# Altium footprint library Front_PCB.PcbLib: 12 footprints
Each footprint in its own frame and in the unit in brackets; x right, y up, seen from the top. Pads: shape width x height; smd on the part's side, far side on the other; paste and mask are expansions set on the pad; w line width, h text height; cw(c..) or ccw(c..) is an arc to the next point about the centre after c.
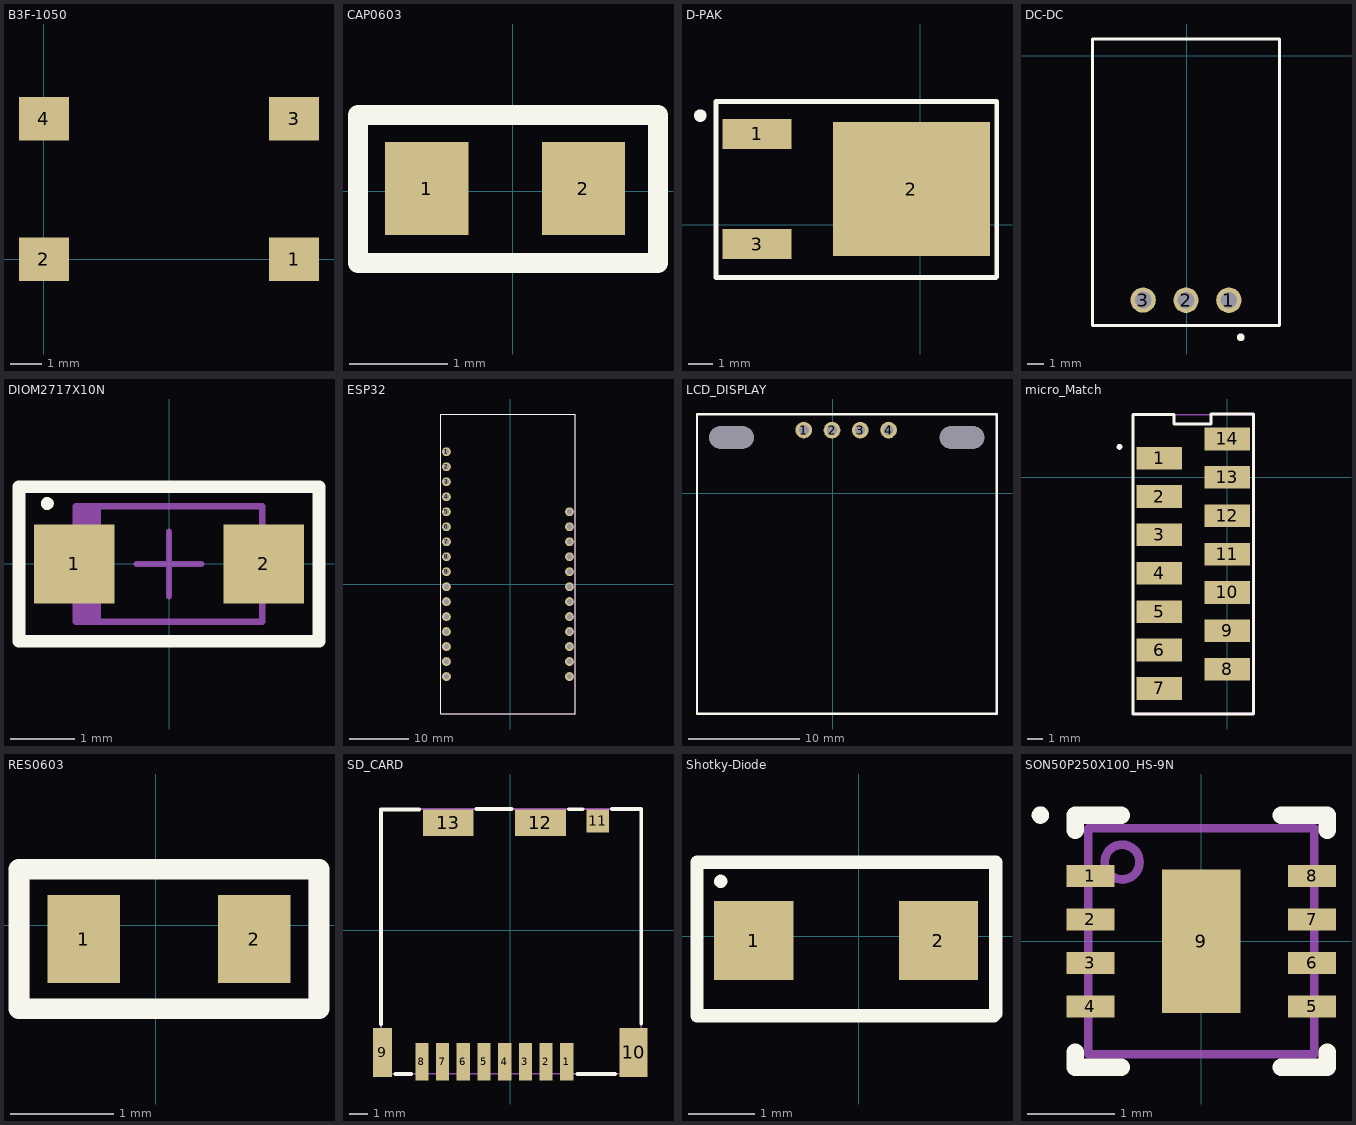
[diagram p0: the footprints below, top view; thin cyan lines are the x and y axes]

## B3F-1050 [mm]
pads (4):
  rect 1.6x1.4 smd: 1(8,0) 2(0,0) 3(8,4.5) 4(0,4.5)
3D body "33421.STEP": height 10.5, standoff 5, extent 1.1,-0.76 7.1,5.24
3D body "User Library-omron_b3fs1050.STEP": height 7.3, standoff 0, extent 0.02,-0.9 8.02,5.4

## CAP0603 [mm]
pads (2):
  rect 0.85x0.95 smd: 1(-0.88,0.03) 2(0.72,0.03)
Top Overlay:
  lines w0.2: -1.58,-0.73 1.48,-0.73 1.48,0.78 -1.58,0.78 -1.58,-0.73
Mechanical 29:
  lines w0.1: -1.54,-0.71 -1.54,0.75 1.47,0.75 1.47,-0.71 -1.54,-0.71
  text "'.Designator'" at -1.12,-0.11 h0.52
3D body: height 0.6, standoff 0, extent -0.53,-0.37 0.37,0.43
3D body: height 0.6, standoff 0, extent 0.37,-0.37 0.72,0.43
3D body: height 0.6, standoff 0, extent -0.88,-0.37 -0.53,0.43

## D-PAK [mm]
pads (3):
  rect 2.85x1.25 smd: 1(-6.77,3.77) 3(-6.77,-0.79)
  rect 6.5x5.55 smd: 2(-0.38,1.48)
Top Overlay:
  circle w0.25: c-9.12,4.53 r0.136
  lines w0.2: -8.47,-2.17 -8.47,5.12 3.16,5.12 3.16,-2.15 3.14,-2.17 -8.47,-2.17
Mechanical 29:
  lines w0.1: -8.43,-2.17 -8.43,5.13 3.17,5.13 3.17,-2.17 -8.43,-2.17
  text "'.Designator'" at -8.29,1.23 h1
3D body: height 2.4, standoff 0.6, extent -4.78,-1.92 1.52,4.88

## DC-DC [mm]
pads (3):
  round 1.501 hole 1: 1(2.49,-14.5) 2(-0.05,-14.5)
  round 1.5 hole 1: 3(-2.59,-14.49)
Top Overlay:
  circle w0.254: c3.2,-16.7 r0.1
  lines w0.2: -5.6,-16 5.5,-16 5.5,1 -5.6,1 -5.6,-16
Mechanical 29:
  lines w0.1: -5.6,-16 -5.6,1 5.5,1 5.5,-3.5 5.5,-10.4 5.5,-16 3.7,-16 -1.975,-16 -5.6,-16
  text "'.Designator'" at -4.3,-3.3 h0.7
3D body: height 7.6, standoff 0, extent -5.6,-15.98 5.49,0.96

## DIOM2717X10N [mm] "Molded Diode, 2-Leads, Body 2.70x1.65mm, IPC Medium Density"
height 1
pads (2):
  rect 1.25x1.22 smd: 1(-1.475,0) 2(1.475,0)
Top Overlay:
  circle w0.1: c-1.89,0.94 r0.05
  lines w0.2: -2.33,-1.2 -2.33,1.2 2.33,1.2 2.33,-1.2 -2.33,-1.2
Mechanical 15:
  lines w0.1: -0.5,0 0.5,0 ; 0,-0.5 0,0.5
Mechanical 29:
  rectangle: -1.45,-0.9 -1.06,0.9
  lines w0.1: -1.45,-0.9 -1.45,0.9 1.45,0.9 1.45,-0.9 -1.45,-0.9
  text "'.Designator'" at -1.8,-0.34 h2
3D body "DIOM2717X10N.step": height 1, standoff 0, extent -1.67,-0.9 1.67,0.9

## ESP32 [mm]
pads (28):
  round 1.5 hole 0.9: 1(-10.81,22.44) 2(-10.81,19.9) 3(-10.81,17.36) 4(-10.81,14.82) 5(-10.81,12.28) 6(-10.81,9.74) 7(-10.8,7.2) 8(-10.81,4.66) 9(-10.81,2.12) 10(-10.81,-0.42) 11(-10.81,-2.96) 12(-10.81,-5.5) 13(-10.81,-8.04) 14(-10.81,-10.58) 15(-10.81,-13.12) 16(-10.81,-15.66) 17(10.05,-15.66) 18(10.05,-13.12) 19(10.05,-10.58) 20(10.05,-8.04) 21(10.05,-5.5) 22(10.05,-2.96) 23(10.05,-0.42) 24(10.05,2.12) 25(10.05,4.66) 26(10.05,7.2) 27(10.05,9.74) 28(10.05,12.28)
Top Overlay:
  lines w0.2: -11.81,-22.01 -11.81,28.83 11.04,28.83 11.04,-22.01 -11.81,-22.01
Mechanical 29:
  lines w0.1: -11.81,-22.01 -11.81,28.85 11.07,28.85 11.07,-22.01 3.93,-22.01 -11.81,-22.01
  text "'.Designator'" at -2.3,3.6 h1.52

## LCD_DISPLAY [mm]
pads (6):
  round 1.5 hole 0.9: 1(-2.63,5.69)
  round 1.501 hole 0.9: 2(-0.09,5.68) 3(2.45,5.68) 4(5,5.69)
  oval 4x2 hole 2.032 slot 3.988 at 0 deg unplated: ""(-9.14,5.02) ""(11.61,5.02)
Top Overlay:
  lines w0.2: -12.23,-19.84 14.73,-19.84 14.73,7.12 -12.23,7.12 -12.23,-19.84
Mechanical 29:
  lines w0.1: 14.685,7.12 10.96,7.12 9.985,7.12 -12.24,7.12 -12.24,-19.855 14.76,-19.855 14.71,7.095
  text "'.Designator'" at -3.87,-7.05 h1.52
3D body "User Library-128x64I2COLEDDisplayAdafruit.step": height 4.77, standoff -6.07, extent -12.15,-19.79 14.55,8.07

## micro_Match [mm]
pads (14):
  rect 3x1.5 smd: 1(-4.5,1.27) 2(-4.5,-1.27) 3(-4.5,-3.81) 4(-4.5,-6.35) 5(-4.5,-8.89) 6(-4.5,-11.43) 7(-4.5,-13.97) 8(0,-12.7) 9(0,-10.16) 10(0,-7.62) 11(0,-5.08) 12(0,-2.54) 13(0,0) 14(0,2.54)
Top Overlay:
  circle w0.254: c-7.14,2.01 r0.061
  lines w0.2: -6.26,-15.64 -6.26,4.17 -3.52,4.17 -3.52,3.54 -1.09,3.54 -1.09,4.19 1.72,4.19 1.72,-15.66 -6.24,-15.66 -6.26,-15.64
Mechanical 29:
  lines w0.1: 1.72,-15.65 1.72,-0.86 1.72,4.13 -6.25,4.13 -6.25,-15.62 1.72,-15.62
  text "'.Designator'" at -2.32,-14.97 h1.5
3D body "c-1-2178711-4-a-3d.stp": height 5, standoff -0.25, extent -5.78,-15.605 1.22,4.105

## RES0603 [mm]
pads (2):
  rect 0.7x0.85 smd: 1(-0.695,-0.135) 2(0.955,-0.135)
Top Overlay:
  lines w0.2: -1.32,-0.81 1.58,-0.81 1.58,0.54 -1.32,0.54 -1.32,-0.81
Mechanical 29:
  lines w0.1: -1.267,-0.77 1.527,-0.77 1.527,0.5 -1.267,0.5 -1.267,-0.77
  text "'.Designator'" at -0.886,-0.516 h0.7
3D body: height 0.6, standoff 0, extent 0.63,-0.535 0.93,0.265
3D body: height 0.6, standoff 0, extent -0.67,-0.535 -0.37,0.265
3D body: height 0.6, standoff 0, extent -0.37,-0.535 0.63,0.265

## SD_CARD [mm]
pads (13):
  rect 0.7x2 smd: 1(3.013,-6.993) 2(1.913,-6.993) 3(0.813,-6.993) 4(-0.287,-6.993) 5(-1.387,-6.993) 6(-2.487,-6.993) 7(-3.587,-6.993) 8(-4.687,-6.993)
  rect 1x2.6 smd: 9(-6.787,-6.493)
  rect 1.5x2.6 smd: 10(6.563,-6.493)
  rect 1.2x1.2 smd: 11(4.663,5.807)
  rect 2.7x1.4 smd: 12(1.613,5.707) 13(-3.287,5.707)
Top Overlay:
  lines w0.2: -6.858,-4.99 -6.858,6.42 -4.84,6.42 ; -6.09,-7.64 -5.25,-7.64 ; -1.79,6.44 0.08,6.44 ; 3.12,6.43 3.86,6.43 ; 3.58,-7.64 5.59,-7.64 ; 5.42,6.45 6.967,6.45 6.972,6.445 6.972,-4.98
Mechanical 1:
  text "'.Designator'" at -3.88,-2.16 h0.7
Mechanical 29:
  lines w0.1: -6.858,-7.635 6.972,-7.635 6.972,6.445 -6.858,6.445 -6.858,-7.635
3D body "DM3CS-SF.stp": height 1.98, standoff 0.05, extent -6.86,-7.75 6.94,6.35
3D body "SW3dPS-microsd card.STEP": height 1.9, standoff 0.9, extent -5.64,-9.03 5.372,5.97

## Shotky-Diode [mm]
pads (2):
  rect 1.2x1.2 smd: 1(-1.59,-0.07) 2(1.21,-0.07)
Top Overlay:
  circle w0.1: c-2.09,0.83 r0.05
  lines w0.2: -2.45,-1.21 -2.45,1.12 2.08,1.12 2.08,-1.18 2.05,-1.21 -2.45,-1.21
Mechanical 29:
  lines w0.1: -2.45,-1.2 2.1,-1.2 2.1,1.07 -2.45,1.07 -2.45,-1.2
  text "'.Designator'" at -2.22,-0.39 h1
3D body: height 1.1, standoff 0, extent -1.59,-1.02 1.21,0.88

## SON50P250X100_HS-9N [mm] "SON, 8-Leads, Body 2.50x2.50mm, Pitch 0.50mm, Thermal Pad 1.65x0.69mm, IPC Medium Density"
height 1
pads (9):
  rect 0.55x0.25 smd: 1(-1.275,0.75) 2(-1.275,0.25) 3(-1.275,-0.25) 4(-1.275,-0.75) 5(1.275,-0.75) 6(1.275,-0.25) 7(1.275,0.25) 8(1.275,0.75)
  rect 0.9x1.65 smd: 9(0,0)
Top Overlay:
  circle w0.1: c-1.85,1.45 r0.05
  lines w0.2: -1.45,-1.275 -1.45,-1.45 -0.92,-1.45 ; -1.45,1.275 -1.45,1.45 -0.92,1.45 ; 0.92,-1.45 1.45,-1.45 1.45,-1.275 ; 0.92,1.45 1.45,1.45 1.45,1.275
Mechanical 29:
  circle w0.1: c-0.91,0.91 r0.2
  lines w0.1: -1.3,-1.3 -1.3,1.3 1.3,1.3 1.3,-1.3 -1.3,-1.3
  text "'.Designator'" at -0.98,-0.8 h0.7
3D body "SON50P250X100_HS-9N.step": height 1, standoff 0, extent -1.5,-1.3 1.5,1.3